# Altium schematic symbol library IGBT,N Ch,600V,120A,SMD.Schlib: 1 symbol
Pins are listed as number, name and electrical type; pins without a type are passive.

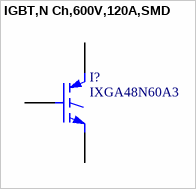
[diagram p0: symbol IGBT,N Ch,600V,120A,SMD]

## IGBT,N Ch,600V,120A,SMD
designator I?, comment IXGA48N60A3
IGBT PT Surface Mount TO-263 (IXGA)
pins: 1 G, 2 C, 3 E